# Altium schematic symbol library Schlib_Maxim_Integrated.SchLib: 11 symbols
Pins are listed as number, name and electrical type; pins without a type are passive.

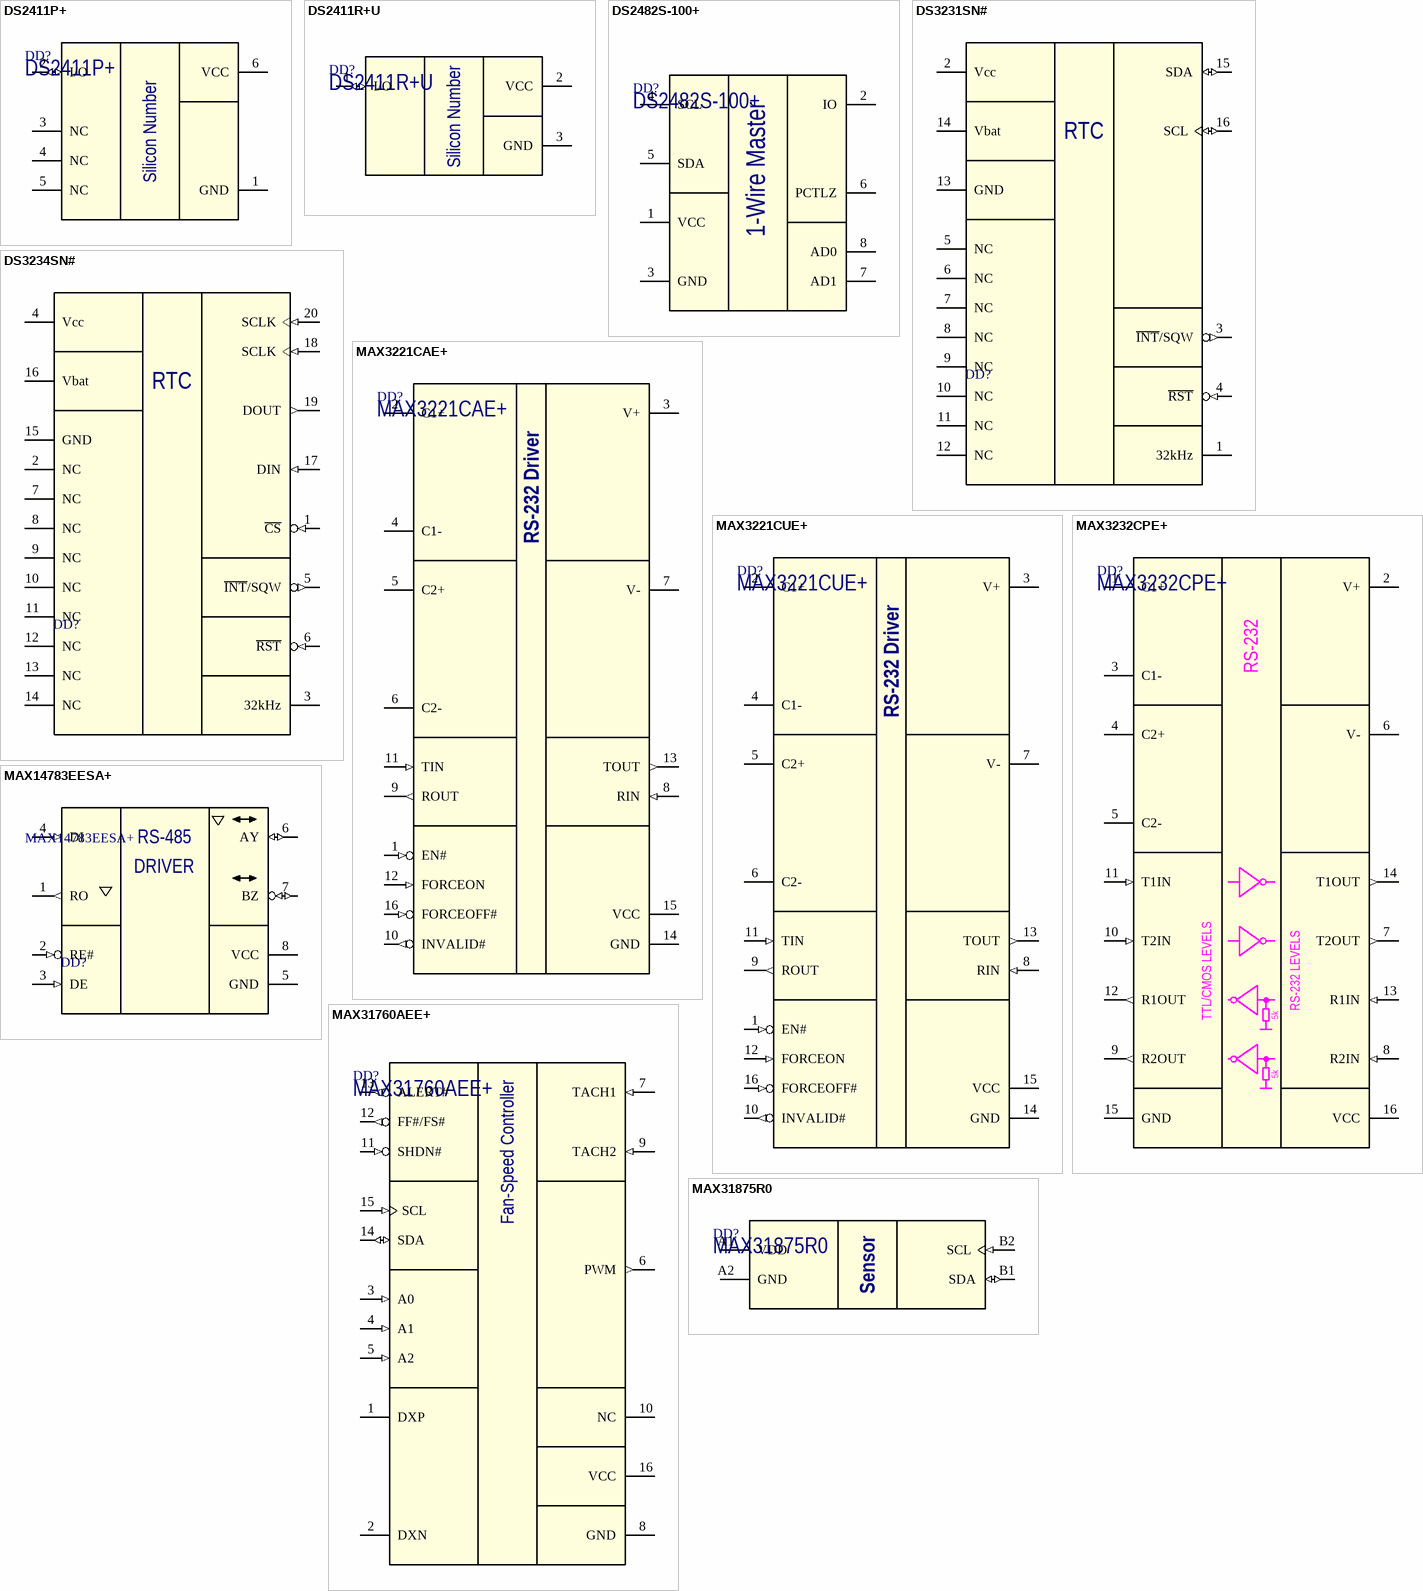
[diagram p0: symbols DS2411P+ to MAX31875R0]

## DS2411P+
designator DD?
Silicon Serial Number with VCC Input; Manufacturer: Maxim Integrated; Part Number: DS2411P+; Package: TSOC6
footprint TSOC-6
pins: 1 GND (power), 2 I/O (io), 3 NC (hiz), 4 NC (hiz), 5 NC (hiz), 6 VCC (power)
text: Silicon Number

## DS2411R+U
designator DD?
Silicon Serial Number with VCC Input; Manufacturer: Maxim Integrated; Part Number: DS2411R+U; Package: SOT23-3
footprint SOT23-3 (SOT23, 6-Leads, Body 2.90x2.80mm, Pitch 0.95mm, IPC Medium Density)
pins: 1 I/O (io), 2 VCC (power), 3 GND (power)
text: Silicon Number

## DS2482S-100+
designator DD?
Single-Channel 1-Wire Master; Manufacturer: Maxim Integrated; Part Number: DS2482S-100+; Package: SOIC-8
footprint SOIC-8 (SOIC-8 package)
pins: 1 VCC, 2 IO, 3 GND, 4 SCL, 5 SDA, 6 PCTLZ, 7 AD1, 8 AD0
text: 1-Wire Master

## DS3231SN#
designator DD?  (value not drawn)
IC RTC; Manufacturer: Maxim Integrated; PartNumber: DS3231SN#; Package: SOIC-16; Author: Sklyarov
footprint SOIC-16N (SOIC, 16-Leads, Body 10.29x7.49mm, Pitch 1.27mm, IPC Medium Density)
pins: 1 32kHz, 2 Vcc (power), 3 ~{INT}/SQW (out), 4 ~{RST} (in), 5 NC, 6 NC, 7 NC, 8 NC, 9 NC, 10 NC, 11 NC, 12 NC, 13 GND (power), 14 Vbat (power), 15 SDA (io), 16 SCL (io)
text: RTC

## DS3234SN#
designator DD?  (value not drawn)
IC RTC; Manufacturer: Maxim Integrated; PartNumber: DS3234SN#; Package: SOIC-20N; Author: Sklyarov
footprint SOIC-20N (SOIC, 20-Leads, Body 12.80x7.50mm, Pitch 1.27mm, IPC Medium Density)
pins: 1 ~{CS} (in), 2 NC, 3 32kHz, 4 Vcc (power), 5 ~{INT}/SQW (out), 6 ~{RST} (in), 7 NC, 8 NC, 9 NC, 10 NC, 11 NC, 12 NC, 13 NC, 14 NC, 15 GND (power), 16 Vbat (power), 17 DIN (in), 18 SCLK (in), 19 DOUT (out), 20 SCLK (in)
text: RTC

## MAX3221CAE+
designator DD?
RS-232 Transceivers with AutoShutdown; Manufacturer: Maxim Integrated; Part Number: MAX3221CAE+; Package: SSOP-16
footprint SSOP-16 (SSOP, 16-Leads, Body 6,20x5,29mm, Pitch 0,65mm, IPC Medium Density)
pins: 1 EN# (in), 2 C1+, 3 V+ (power), 4 C1-, 5 C2+, 6 C2-, 7 V- (power), 8 RIN (in), 9 ROUT (out), 10 INVALID# (out), 11 TIN (in), 12 FORCEON (in), 13 TOUT (out), 14 GND (power), 15 VCC (power), 16 FORCEOFF# (in)
text: RS-232 Driver

## MAX3221CUE+
designator DD?
RS-232 Transceivers with AutoShutdown; Manufacturer: Maxim Integrated; Part Number: MAX3221CUE+; Package: TSSOP-16
footprint TSSOP-16 (TSOP, 20-Leads, Body 6.50x4.40mm, Pitch 0.65mm, IPC Medium Density)
pins: 1 EN# (in), 2 C1+, 3 V+ (power), 4 C1-, 5 C2+, 6 C2-, 7 V- (power), 8 RIN (in), 9 ROUT (out), 10 INVALID# (out), 11 TIN (in), 12 FORCEON (in), 13 TOUT (out), 14 GND (power), 15 VCC (power), 16 FORCEOFF# (in)
text: RS-232 Driver

## MAX3232CPE+
designator DD?
3.0V to 5.5V, Low-Power, Up to 1Mbps, True RS-232 Transceivers; Manufacturer: Maxim Integrated; Part Number: MAX3232CPE+; Package: DIP-16
footprint DIP-16P-M03 (Plastic DIP, 16 pin, lead pitch 2.54mm (0.1"), row spacing 7.62mm (0.3"))
pins: 1 C1+, 2 V+, 3 C1-, 4 C2+, 5 C2-, 6 V-, 7 T2OUT (out), 8 R2IN (in), 9 R2OUT (out), 10 T2IN (in), 11 T1IN (in), 12 R1OUT (out), 13 R1IN (in), 14 T1OUT (out), 15 GND (power), 16 VCC (power)
text: RS-232; TTL/CMOS LEVELS; RS-232 LEVELS; 5k

## MAX14783EESA+
designator DD?
RS-485 Transmitter; Manufacturer: Maxim Integrated; Part Number: MAX14783EESA+; Package: SO-8; Author: Sklyarov
footprint SOIC-8 (SOIC-8 package)
pins: 1 RO (out), 2 RE# (in), 3 DE (in), 4 DI (in), 5 GND (power), 6 AY (io), 7 BZ (io), 8 VCC (power)
text: RS-485; DRIVER

## MAX31760AEE+
designator DD?
Precision Fan-Speed Controller with Nonvolatile Lookup Table; Manufacturer: Maxim Integrated; Part Number: MAX31760AEE+; Package: QSOP-16
footprint QSOP-16
pins: 1 DXP "Analog Current Output/Voltage Input. Connect to the anode of the remote diode", 2 DXN "Analog Input. Connect to the cathode of the remote diode. Do not connect to ground.", 3 A0 (in) "Address Select Input. Determines I2C slave address. Must be connected to VDD or GND.", 4 A1 (in) "Address Select Input. Determines I2C slave address. Must be connected to VDD or GND.", 5 A2 (in) "Address Select Input. Determines I2C slave address. Must be connected to VDD or GND.", 6 PWM (out) "PWM Output. Open-drain output for fan drive. The power-on default for this pin is high impedance.", 7 TACH1 (in) "Tachometer Input 1. Logic input for measuring speed of fan 1.", 8 GND (power) "Ground Connection", 9 TACH2 (in) "Tachometer Input 2. Logic input for measuring speed of fan 2.", 10 NC (hiz), 11 SHDN# (in) "Active-Low Shutdown Output. Open-drain output for system shutdown when overtemperature is detected.", 12 FF#/FS# (out) "Active-Low Fan-Failure Output and Full-Speed Input (Open Drain).The device pulls this output low if a fan", 13 ALERT# (out) "Active-Low Alert Output. Open-drain fault output. ALERT is triggered when a measured temperature exceeds its programmed high limit. A pullup resistor to VDD is recommended.", 14 SDA (io) "Serial Data Input/Output. Input/Output for I2C data.", 15 SCL (in) "Serial Clock Input. Input for I2C clock.", 16 VCC (power) "Power-Supply Input. 3.0V to 3.6V voltage supply."
text: Fan-Speed Controller

## MAX31875R0
designator DD?
Low-Power I2C Temperature Sensor; Manufacturer: Maxim Integrated; Part Number: MAX31875R0; Package: WLP-4
footprint WLP-4 (CLG400 Package for Zynq-7000 Series SoC)
pins: A1 VDD (power) "Power-Supply Input. 3.0V to 3.6V voltage supply.", A2 GND (power) "Ground Connection", B1 SDA (io) "Serial Data Input/Output. Input/Output for I2C data.", B2 SCL (in) "Serial Clock Input. Input for I2C clock."
text: Sensor